# Altium schematic symbol library ERJS1TJ561U.SchLib: 1 symbol
Pins are listed as number, name and electrical type; pins without a type are passive.

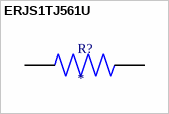
[diagram p0: symbol ERJS1TJ561U]

## ERJS1TJ561U
designator R?
MP: ERJS1TJ561U; Package: None; Value: *; Availability: Unavailable; Price: None
footprint RES_ERJS1TJ561U
pins: 1, 2